# Altium footprint library Footprints.PcbLib: 67 footprints (part 2 of 5)
Each footprint in its own frame and in the unit in brackets; x right, y up, seen from the top. Pads: shape width x height; smd on the part's side, far side on the other; paste and mask are expansions set on the pad; w line width, h text height; cw(c..) or ccw(c..) is an arc to the next point about the centre after c.
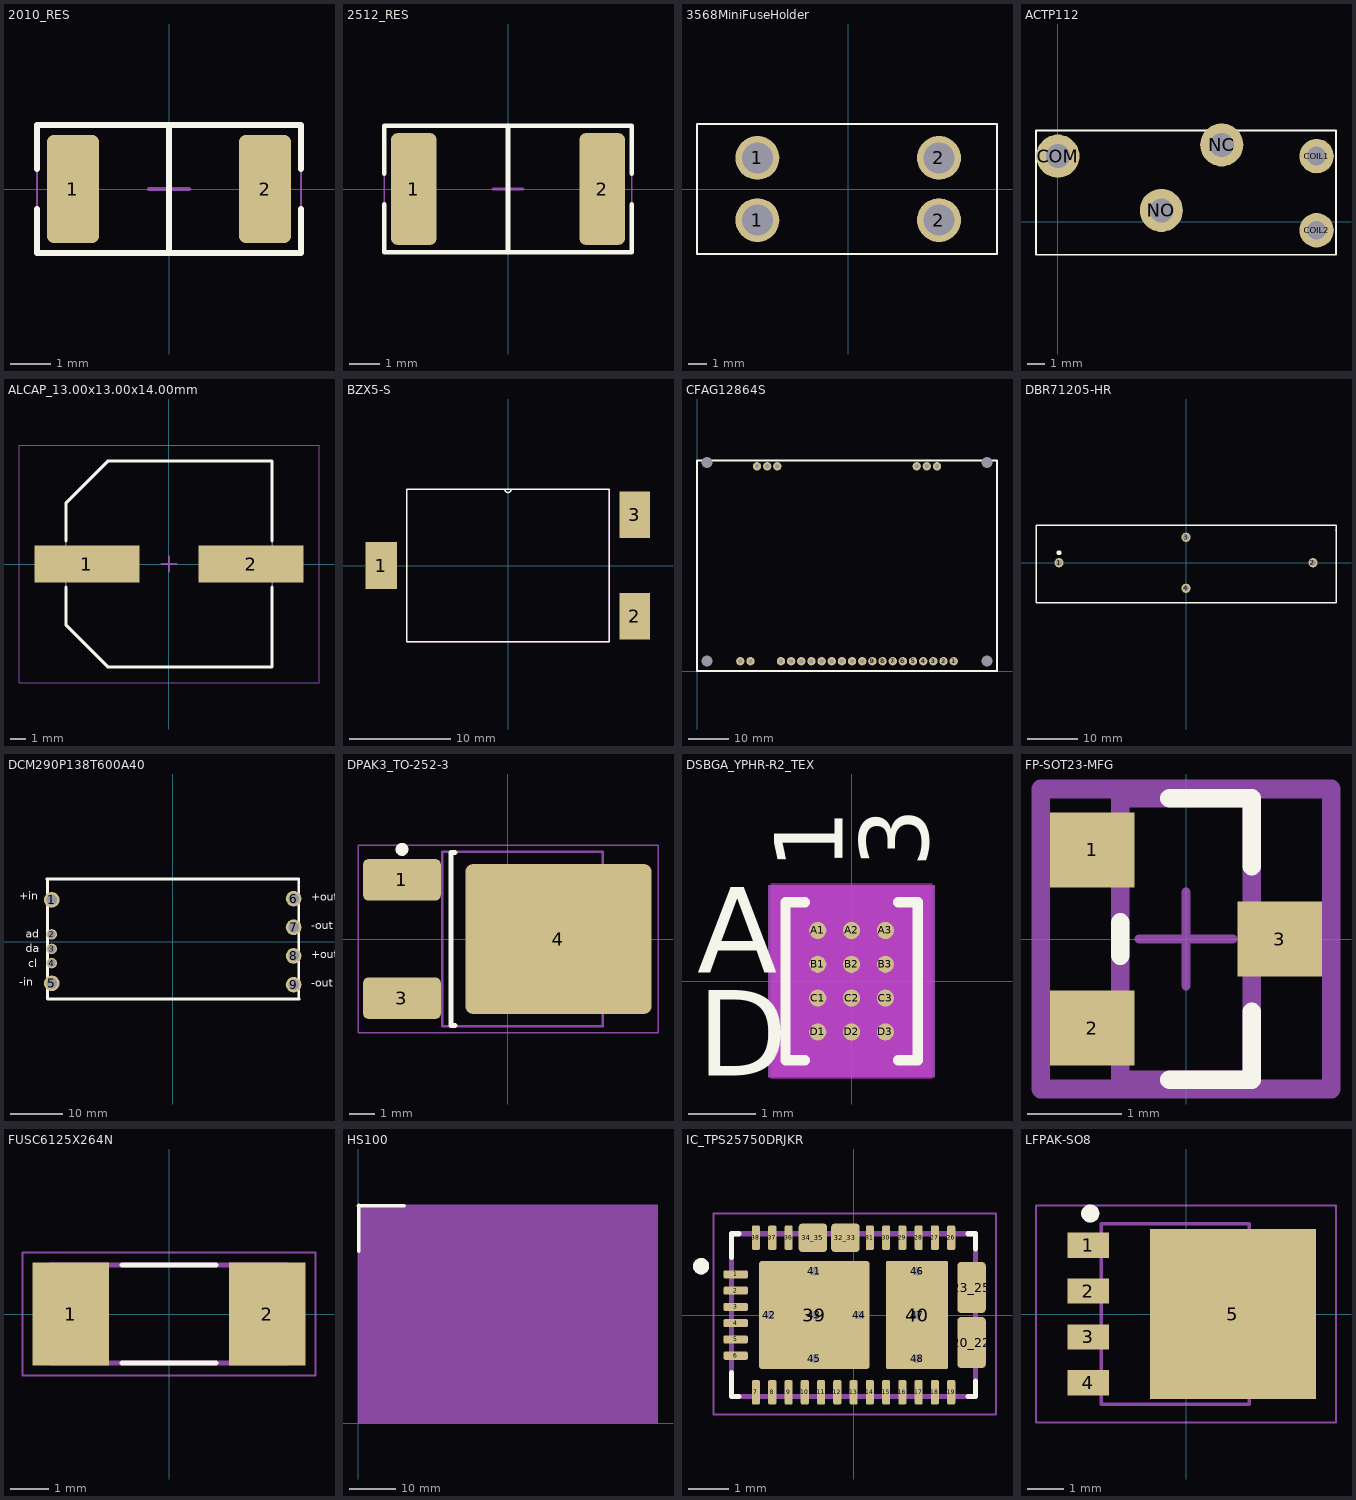
[diagram p1: the footprints below, top view; thin cyan lines are the x and y axes]

## 2010_RES [mm] "Chip Resistor, Body 5.0x2.5mm, IPC High Density"
height 0.9
pads (2):
  rrect25% 1.3x2.7 smd: 1(-2.4,0) 2(2.4,0)
Top Overlay:
  lines w0.15: -3.3,-0.5 -3.3,-1.6 3.3,-1.6 3.3,-0.5 ; -3.3,0.5 -3.3,1.6 3.3,1.6 3.3,0.5 ; 0,-1.6 0,1.6
Mechanical 15:
  lines w0.05: -3.3,-1.6 -3.3,1.6 3.3,1.6 3.3,-1.6 -3.3,-1.6
  lines w0.1: -0.5,0 0.5,0 ; 0,-0.5 0,0.5
3D body "RES2010.stp": height 0.55, standoff 0, extent -2.45,-1.2 2.45,1.2

## 2512_RES [mm]
height 0.9
pads (2):
  rrect25% 1.5x3.7 smd: 1(-3.125,0) 2(3.125,0)
Top Overlay:
  lines w0.15: -4.1,-0.5 -4.1,-2.1 4.1,-2.1 4.1,-0.5 ; -4.1,0.5 -4.1,2.1 4.1,2.1 4.1,0.5 ; 0,-2.1 0,2.1
Mechanical 15:
  lines w0.05: -4.1,-2.1 4.1,-2.1 4.1,2.1 -4.1,2.1 -4.1,-2.1
  lines w0.1: -0.5,0 0.5,0 ; 0,-0.5 0,0.5
3D body "RES2512.stp": height 0.55, standoff 0, extent -3.15,-1.55 3.15,1.55

## 3568MiniFuseHolder [mm]
pads (4):
  round 2.4 hole 1.7: 1(-4.96,-1.7) 1(-4.96,1.7) 2(4.96,-1.7) 2(4.96,1.7)
Top Overlay:
  lines w0.1: -8.255,-3.556 8.128,-3.556 8.128,3.556 -8,3.556 -8.255,3.556 -8.255,-3.556
3D body: height 16.17, standoff 0, extent -6.985,-2.286 6.985,2.286
3D body "Fuse_Keystone_3568_eec.STEP": height 7.49, standoff -2.67, extent -8,-3.346 8,3.384

## ACTP112 [mm] "ACTP112, 12V Relay"
height 13.5
pads (5):
  round 2 hole 1.1: COIL1(15,3.81) COIL2(15,-0.49)
  round 2.5 hole 1.4: COM(0,3.81) NC(9.5,4.46) NO(6,0.66)
Top Overlay:
  lines w0.1: -1.271,-1.905 -1.271,5.295 16.129,5.295 16.129,-1.905 -1.271,-1.905
3D body: height 0, standoff -3.5, extent 14.461,-0.769 15.604,-0.261
3D body: height 0, standoff -3.5, extent 14.461,3.531 15.604,4.039
3D body: height 0, standoff -3.5, extent 8.961,4.181 10.104,4.689
3D body: height 0, standoff -3.5, extent -0.539,3.531 0.604,4.039
3D body: height 0, standoff -3.5, extent 5.461,0.381 6.604,0.889
3D body: height 13.5, standoff 0, extent -1.27,-1.905 16.129,5.334

## ALCAP_13.00x13.00x14.00mm [mm] "Aluminum Electrolytic Capacitor, Body 13.00x13.00x14.00mm, IPC Low Density"
height 14
pads (2):
  rect 6.7x2.35 smd: 1(-5.25,0) 2(5.25,0)
Top Overlay:
  lines w0.2: -6.6,-1.475 -6.6,-3.888 -3.888,-6.6 6.6,-6.6 6.6,-1.475 ; -6.6,1.475 -6.6,3.887 -3.888,6.6 6.6,6.6 6.6,1.475
Mechanical 13:
  lines w0.1: -6.6,-3.888 -3.888,-6.6 6.6,-6.6 6.6,6.6 -3.888,6.6 -6.6,3.887 -6.6,-3.888
Mechanical 15:
  lines w0.05: -9.6,-7.6 -9.6,7.6 9.6,7.6 9.6,-7.6 -9.6,-7.6
  lines w0.1: -0.5,0 0.5,0 ; 0,-0.5 0,0.5
3D body "ALCAP_13.00x13.00x14.00mm.step": height 14, standoff 0, extent -7.2,-6.6 7.2,6.6

## BZX5-S [mil]
pads (3):
  rect 122x181 smd: 1(-492,0)
  rect 118x181 smd: 2(492,-197) 3(492,197)
Top Overlay:
  lines w6: -12,295.5 ccw(c0,295.5) 12,295.5 ; -393.5,-295.5 -393.5,295.5 393.5,295.5 393.5,-295.5 -393.5,-295.5
Mechanical 13:
  lines w0: -12,295.5 ccw(c0,295.5) 12,295.5
  lines w1: -393.5,-295.5 -393.5,295.5 393.5,295.5 393.5,-295.5 -393.5,-295.5
3D body: height 94.49, standoff 0, extent -490,-90 -390,90
3D body: height 94.49, standoff 0, extent 390,105 490,285
3D body: height 94.49, standoff 0, extent 390,-285 490,-105
3D body: height 228.35, standoff 0, extent -393.5,-295.5 393.5,295.5

## CFAG12864S [mm]
pads (30):
  round 2.1 hole 1.1: 1(64.17,2.5) 2(61.63,2.5) 3(59.09,2.5) 4(56.55,2.5) 5(54.01,2.5) 6(51.47,2.5) 7(48.93,2.5) 8(46.39,2.5) 9(43.85,2.5) 10(41.31,2.5) 11(38.77,2.5) 12(36.23,2.5) 13(33.69,2.5) 14(31.15,2.5) 15(28.61,2.5) 16(26.07,2.5) 17(23.53,2.5) 18(20.99,2.5) 19(13.37,2.5) 20(10.83,2.5) ""(15,51.2) ""(17.54,51.2) ""(20.08,51.2) ""(54.92,51.2) ""(57.46,51.2) ""(60,51.2)
  round 0 hole 2.75: 21(2.5,52.2) 22(72.5,52.2) 23(72.5,2.5) 24(2.5,2.5)
Top Overlay:
  lines w0.5: 0,0 75,0 75,52.7 0,52.7 0,0
3D body "CFAG12864S-YYH-VT.STEP": height 8.9, standoff -5.18, extent 0,0 75,52.7

## DBR71205-HR [mm] "DBR71205-HR HIGH INSULATION RESISTANCE, HIGH VOLTAGE RELAYS"
height 18.5
pads (4):
  round 1.85 hole 1.15: 1(-25.4,0) 2(25.4,0) 3(0,5.1) 4(0,-5.1)
Top Overlay:
  circle w0.5: c-25.4,2 r0.24
  lines w0.254: -30,-8 -30,7.5 0,7.5 29,7.5 30,7.5 30,6.5 30,-8 -30,-8
Mechanical 15:
  lines w0: 29.75,6.75 30,6.5
3D body: height 0, standoff -4, extent -0.318,-5.417 0.318,-4.783
3D body: height 0, standoff -4, extent -0.318,4.783 0.318,5.417
3D body: height 0, standoff -4, extent -25.718,-0.317 -25.082,0.317
3D body: height 0.25, standoff -4, extent 25.082,-0.317 25.718,0.317
3D body: height 20.5, standoff 0, extent -27.622,1.963 -22.542,7.037
3D body: height 18.5, standoff 0, extent -30,-8 30,7.5

## DCM290P138T600A40 [mm] "Vicor DC/DC converter"
pads (9):
  round 3 hole 2.03: 1(-23.19,8) 5(-23.19,-8) 6(23.19,8.25) 7(23.19,2.75) 8(23.19,-2.75) 9(23.19,-8.25)
  round 2 hole 1.52: 2(-23.19,1.38) 3(-23.19,-1.38) 4(-23.19,-4.13)
Top Overlay:
  lines w0.5: -24.15,12 24.15,12 ; -24,11.93 -24,-11 24.3,-11 ; 24.15,-11 24.15,11.93
  text "-in" at -29.464,-8.509 h1.52
  text "cl" at -27.686,-4.953 h1.52
  text "ad" at -28.194,0.762 h1.52
  text "+in" at -29.464,8 h1.52
  text "da" at -28.194,-2.032 h1.52
  text "-out" at 26.543,2.413 h1.52
  text "-out" at 26.543,-8.636 h1.52
  text "+out" at 26.543,-3.175 h1.52
  text "+out" at 26.543,7.874 h1.52
3D body "VICOR DCDC.step": height 7.21, standoff -4.22, extent -23.955,-11.4 23.955,11.4

## DPAK3_TO-252-3 [mm] "D-PAK, 3-Pads, Body 6.21x6.73mm (max), IPC Medium Density"
height 2.39
pads (3):
  rrect25% 3x1.6 smd: 1(-4.1,2.29) 3(-4.1,-2.29)
  rrect10% 7.2x5.8 smd: 4(1.95,0)
Top Overlay:
  circle w0.25: c-4.1,3.465 r0.125
  lines w0.2: -2.05,-3.35 -2.2,-3.35 -2.2,3.35 -2.05,3.35
Mechanical 13:
  lines w0.1: -2.55,-3.375 3.67,-3.375 3.67,3.375 -2.55,3.375 -2.55,-3.375
Mechanical 15:
  lines w0.05: -5.8,-3.625 5.8,-3.625 5.8,3.625 -5.8,3.625 -5.8,-3.625
  lines w0.1: -0.5,0 0.5,0 ; 0,-0.5 0,0.5
3D body "DPAK3_TO-252-3.step": height 2.52, standoff 0, extent -5,-3.375 4.905,3.375

## DSBGA_YPHR-R2_TEX [mil]
pads (12):
  round 10 smd paste+0 mask+0: A1(-19.69,29.54) A2(0,29.54) A3(19.69,29.54) B1(-19.69,9.85) B2(0,9.85) B3(19.69,9.85) C1(-19.69,-9.85) C2(0,-9.85) C3(19.69,-9.85) D1(-19.69,-29.54) D2(0,-29.54) D3(19.69,-29.54)
Top Overlay:
  lines w6: -27.21,-46 -38.5,-46 -38.5,46 -27.21,46 ; 27.21,-46 38.5,-46 38.5,46 27.21,46
  text "A" at -90,5 h50
  text "D" at -90,-55 h50
  text "1" at -5,65 h40
  text "3" at 44.69,66 h40
Bottom Overlay:
  text "A" at -55,5 h50
  text "D" at -55,-55 h50
  text "1" at -45,65 h40
  text "3" at 5,65 h40
Keep-Out Layer:
  region: -47.03,-56.88 -47.03,56.88 47.03,56.88 47.03,-56.88
Mechanical 5:
  region: 48.5,-56 -48.5,-56 -48.5,56 48.5,56
Mechanical 13:
  lines w1: -33.5,31.16 -23.66,41 ; -33.5,-41 33.5,-41 33.5,41 -33.5,41 -33.5,-41
  text "A" at -90,5 h50
  text "D" at -90,-55 h50
  text "1" at -5,65 h40
  text "3" at 44.69,66 h40
Mechanical 15:
  region: 43.5,-51 -43.5,-51 -43.5,51 43.5,51
  lines w6: -43.5,-51 -43.5,51 43.5,51 43.5,-51 -43.5,-51
3D body "DSBGA_YPHR-R2_TEX.step": height 16.1, standoff 0, extent -33.5,-40.98 33.5,40.98

## FP-SOT23-MFG [mm]
pads (3):
  rect 0.9x0.8 smd paste+0 mask+0: 1(-1,0.95) 2(-1,-0.95) 3(1,0)
Top Overlay:
  lines w0.2: -0.7,-0.175 -0.7,0.175 ; -0.175,-1.5 0.7,-1.5 0.7,-0.775 ; -0.175,1.5 0.7,1.5 0.7,0.775
Mechanical 5:
  lines w0.2: -1.55,-1.6 1.55,-1.6 1.55,1.6 -1.55,1.6 -1.55,-1.6
  text ".Designator" at 0,-0.001 h1
Mechanical 13:
  lines w0.2: -0.7,-1.5 0.7,-1.5 0.7,1.5 -0.7,1.5 -0.7,-1.5
Mechanical 15:
  lines w0.2: -1.55,-1.6 1.55,-1.6 1.55,1.6 -1.55,1.6 -1.55,-1.6
Mechanical 16:
  lines w0.1: -0.5,0 0.5,0 ; 0,-0.5 0,0.5
3D body "Trans_Diodes_Inc_DMG2302UK-7_eec.STEP": height 0.25, standoff 0, extent -1.55,-1.6 1.55,1.6

## FUSC6125X264N [mm]
pads (2):
  rect 1.98x2.67 smd: 1(-2.54,0) 2(2.54,0)
Top Overlay:
  lines w0.127: -1.22,-1.27 1.22,-1.27 ; -1.22,1.27 1.22,1.27
Mechanical 13:
  lines w0.127: -3.05,-1.27 -3.05,1.27 3.05,1.27 3.05,-1.27 -3.05,-1.27
Mechanical 15:
  lines w0.05: -3.78,-1.585 -3.78,1.585 3.78,1.585 3.78,-1.585 -3.78,-1.585

## HS100 [mm] "Wirewound Resistors 100W Aluminum Chassis Mount Resistor"
height 24.1
Top Overlay:
  lines w0.75: 0.2,37.375 0.2,47.375 ; 0.2,47.3 0.025,47.3 10.025,47.3
Mechanical 1:
  rectangle: 0,0 65.2,47.5

## IC_TPS25750DRJKR [mm]
pads (42):
  rrect40% 0.6x0.2 smd mask+0: 1(-2.9,1) 2(-2.9,0.6) 3(-2.9,0.2) 4(-2.9,-0.2) 5(-2.9,-0.6) 6(-2.9,-1)
  rrect40% 0.2x0.6 smd mask+0: 7(-2.4,-1.9) 8(-2,-1.9) 9(-1.6,-1.9) 10(-1.2,-1.9) 11(-0.8,-1.9) 12(-0.4,-1.9) 13(0,-1.9) 14(0.4,-1.9) 15(0.8,-1.9) 16(1.2,-1.9) 17(1.6,-1.9) 18(2,-1.9) 19(2.4,-1.9) 26(2.4,1.9) 27(2,1.9) 28(1.6,1.9) 29(1.2,1.9) 30(0.8,1.9) 31(0.4,1.9) 36(-1.6,1.9) 37(-2,1.9) 38(-2.4,1.9)
  rrect25% 0.7x1.253 smd paste-2 mask+0: 20_22(2.9,-0.677) 23_25(2.9,0.677)
  rrect25% 0.7x0.7 smd paste-1 mask+0: 32_33(-0.2,1.9) 34_35(-1,1.9)
  rrect5% 2.72x2.65 smd paste-2: 39(-0.965,0)
  rrect5% 1.53x2.65 smd paste-2: 40(1.56,0)
  round 0.4 hole 0.2 mask+0: 41(-0.965,1.075) 42(-2.075,0) 43(-0.965,0) 44(0.145,0) 45(-0.965,-1.075) 46(1.56,1.075) 47(1.56,0) 48(1.56,-1.075)
Top Overlay:
  circle w0.2: c-3.75,1.2 r0.1
  lines w0.127: -3,-1.42 -3,-2 -2.82,-2 ; -3,1.42 -3,2 -2.82,2 ; 2.82,-2 3,-2 3,-1.623 ; 2.82,2 3,2 3,1.623
Top Paste:
  drawing of 10 lines, arcs and shapes, not listed
Top Solder:
  drawing of 32 lines, arcs and shapes, not listed
Mechanical 13:
  circle w0.2: c-3.75,1.2 r0.1
  lines w0.127: -3,-2 3,-2 3,2 -3,2 -3,-2
Mechanical 15:
  lines w0.05: -3.45,-2.45 -3.45,2.5 3.5,2.5 3.5,-2.45 -3.45,-2.45

## LFPAK-SO8 [mm] "TO, 5-Pads, Body 5.15x5.86mm (max), IPC Low Density"
height 1.1
pads (5):
  rect 1.15x0.7 smd: 1(-2.7,1.905) 2(-2.7,0.635) 3(-2.7,-0.635) 4(-2.7,-1.905)
  rect 4.6x4.7 smd: 5(1.3,0)
Top Overlay:
  circle w0.25: c-2.65,2.78 r0.125
Mechanical 13:
  lines w0.1: -2.35,-2.5 1.75,-2.5 1.75,2.5 -2.35,2.5 -2.35,-2.5
Mechanical 15:
  lines w0.05: -4.15,-3 4.15,-3 4.15,3 -4.15,3 -4.15,-3
  lines w0.1: -0.5,0 0.5,0 ; 0,-0.5 0,0.5
3D body "LFPAK-SO8.step": height 1.25, standoff 0, extent -2.95,-2.5 3.05,2.5